# EAGLE library part MCP2221-I_SL (library SamacSys_Parts)
USB 2.0 to I2C/UART Converter GPIO SO14 Microchip MCP2221-I/SL, USB Converter, USB 2.0 at 12Mbit/s, 3 5.5 V, 14-Pin SOIC Source: Datasheet <https://datasheet.datasheetarchive.com/originals/distributors/DKDS-15/280084.pdf>
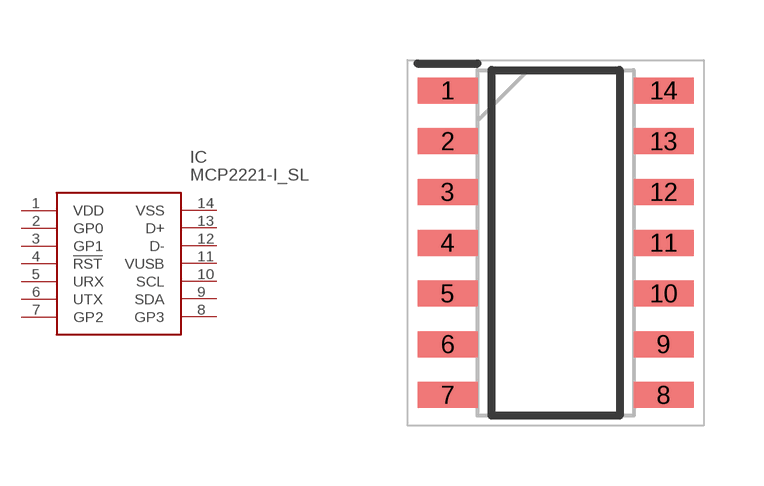
[diagram p52: symbol with the pads of SOIC127P600X175-14N; footprint SOIC127P600X175-14N]

Designator prefix IC

## MCP2221-I_SL (DESCRIPTION: USB 2.0 to I2C/UART Converter GPIO SO14 Microchip MCP2221-I/SL, USB Converter, USB 2.0 at 12Mbit/s, 3 5.5 V, 14-Pin SOIC; HEIGHT: 1.75mm; MANUFACTURER_NAME: Microchip; MANUFACTURER_PART_NUMBER: MCP2221-I/SL; MOUSER_PART_NUMBER: 579-MCP2221-I/SL; MOUSER_PRICE-STOCK: https://www.mouser.co.uk/ProductDetail/Microchip-Technology/MCP2221-I-SL?qs=wzzOUr4NhYrXnl%252BgbTV6ag%3D%3D)  [SOIC127P600X175-14N]
1  VDD
2  GP0
3  GP1
4  !RST
5  URX
6  UTX
7  GP2
8  GP3
9  SDA
10  SCL
11  VUSB
12  D-
13  D+
14  VSS

## Footprint SOIC127P600X175-14N (pad centres in mm)
14-Lead(SL) SOIC
smd 1.5 x 0.65: 1 -2.7,3.81; 2 -2.7,2.54; 3 -2.7,1.27; 4 -2.7,0; 5 -2.7,-1.27; 6 -2.7,-2.54; 7 -2.7,-3.81; 8 2.7,-3.81; 9 2.7,-2.54; 10 2.7,-1.27; 11 2.7,0; 12 2.7,1.27; 13 2.7,2.54; 14 2.7,3.81